# EAGLE library part 6_PIN_CONN (library BMS Lbr)
6 Pin Connector
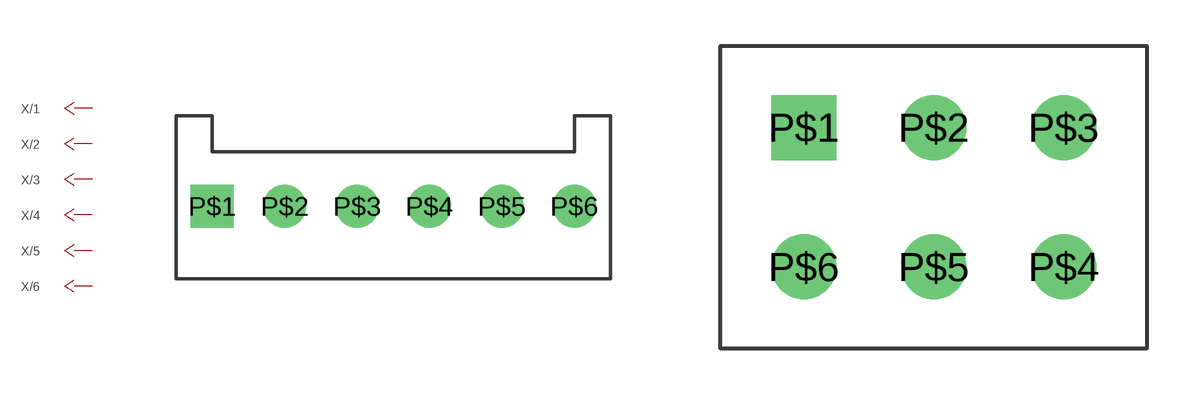
[diagram p4: symbol with the pads of 6_PIN_IDC; footprints 6_PIN_IDC, A30604_6_PIN]

Designator prefix X; gates /1=CONN_PIN /2=CONN_PIN /3=CONN_PIN /4=CONN_PIN /5=CONN_PIN /6=CONN_PIN

## 6_PIN_CONN  [6_PIN_IDC]
P$1  /1:$/1
P$2  /2:$/1
P$3  /3:$/1
P$4  /4:$/1
P$5  /5:$/1
P$6  /6:$/1

## 6_PIN_CONNTE  [A30604_6_PIN]
Pads as for 6_PIN_IDC

## 6_PIN_CONNTE_IDC  [2178710_IDC]
Pads as for 6_PIN_IDC

## 6_PIN_CONNMOLEX_HORI  [6_PIN_MOLEX]
Pads as for 6_PIN_IDC

## Footprint 6_PIN_IDC (pad centres in mm)
drill 1 square: P$1 -6.35,0
drill 1: P$2 -3.81,0; P$3 -1.27,0; P$4 1.27,0; P$5 3.81,0; P$6 6.35,0

## Footprint A30604_6_PIN (pad centres in mm)
drill 1.4 square: P$1 -4.2,2.25
drill 1.4: P$2 0,2.25; P$3 4.2,2.25; P$4 4.2,-2.25; P$5 0,-2.25; P$6 -4.2,-2.25

## Footprint 2178710_IDC (pad centres in mm)
drill 0.8 square: P$1 -3.81,-2.54
drill 0.8: P$2 -1.27,-2.54; P$3 2.54,0; P$4 1.27,-2.54; P$5 0,0; P$6 -2.54,0
hole 1.5 at 3.94,-1.8

## Footprint 6_PIN_MOLEX (pad centres in mm)
drill 1.8 square: P$1 4.2,-2.75
drill 1.8: P$2 0,-2.75; P$3 -4.2,-2.75; P$4 4.2,2.75; P$5 0,2.75; P$6 -4.2,2.75
hole 3 at 4.2,-10.05
hole 3 at -4.2,-10.05